# EAGLE library part MAX4315 (library Halley)
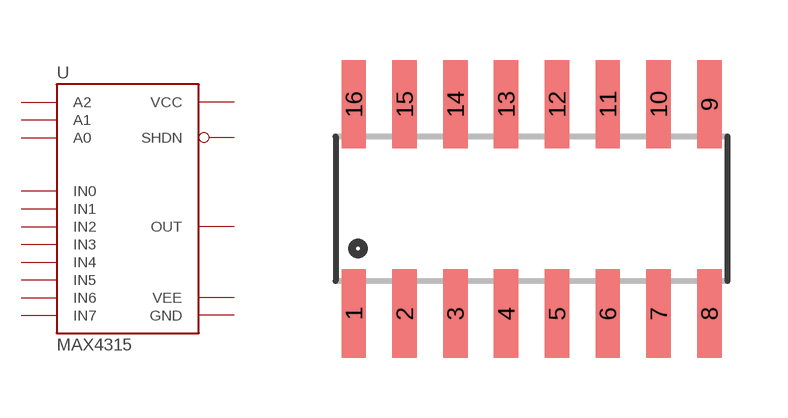
[diagram p3: symbol with the pads of SOIC-16; footprint SOIC-16]

Designator prefix U

## MAX4315  [SOIC-16]
1  A2
2  A1
3  A0
4  VCC
5  IN0
6  IN1
7  IN2
8  IN3
9  IN4
10  IN5
11  IN6
12  IN7
13  VEE
14  SHDN
15  GND
16  OUT

## Footprint SOIC-16 (pad centres in mm)
smd 0.61 x 2.21: 1 -4.445,-2.616; 2 -3.175,-2.616; 3 -1.905,-2.616; 4 -0.635,-2.616; 5 0.635,-2.616; 6 1.905,-2.616; 7 3.175,-2.616; 8 4.445,-2.616; 9 4.445,2.616; 10 3.175,2.616; 11 1.905,2.616; 12 0.635,2.616; 13 -0.635,2.616; 14 -1.905,2.616; 15 -3.175,2.616; 16 -4.445,2.616